# Altium footprint library capstonefootprints1.PcbLib: 17 footprints (part 1 of 2)
Each footprint in its own frame and in the unit in brackets; x right, y up, seen from the top. Pads: shape width x height; smd on the part's side, far side on the other; paste and mask are expansions set on the pad; w line width, h text height; cw(c..) or ccw(c..) is an arc to the next point about the centre after c.
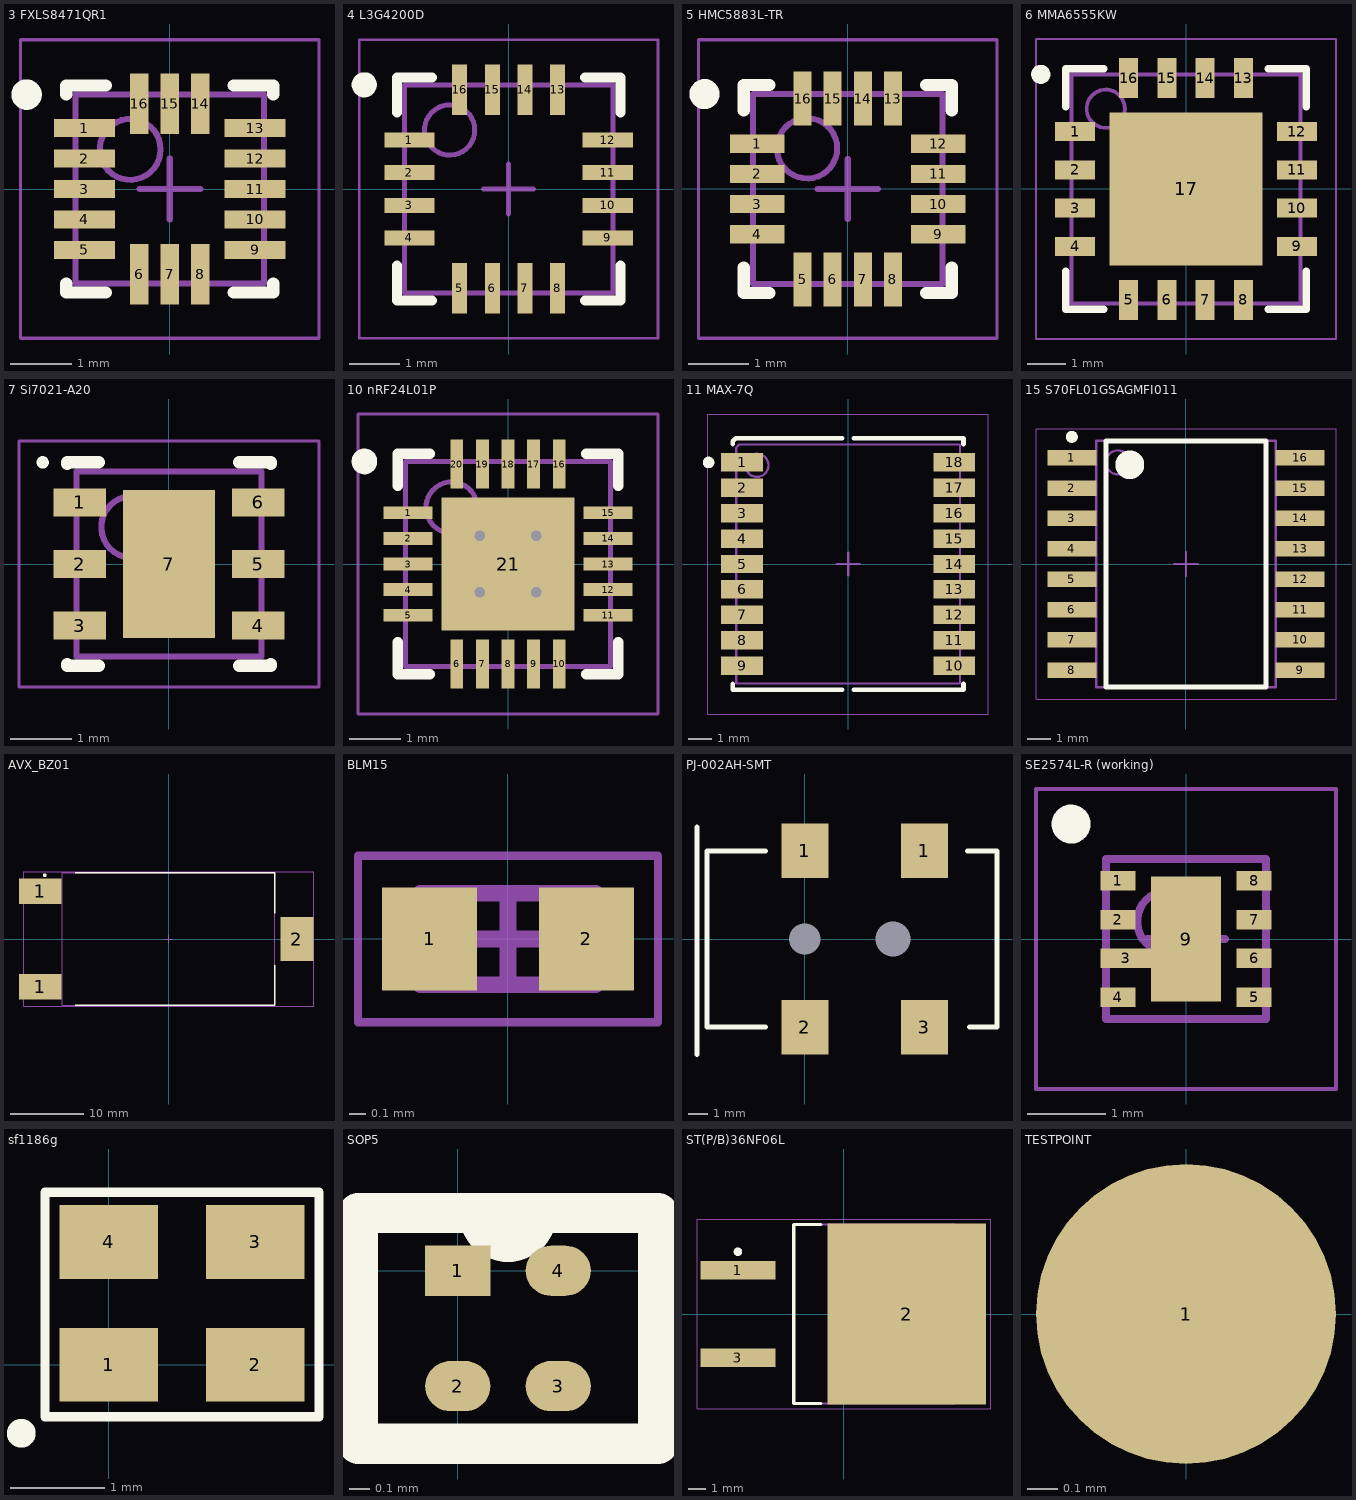
[diagram p0: the footprints below, top view; thin cyan lines are the x and y axes]

## 3 FXLS8471QR1 [mm]
height 1
pads (16):
  rect 1x0.3 smd: 1(-1.4,1) 2(-1.4,0.5) 3(-1.4,0) 4(-1.4,-0.5) 5(-1.4,-1) 9(1.4,-1) 10(1.4,-0.5) 11(1.4,0) 12(1.4,0.5) 13(1.4,1)
  rect 0.3x1 smd: 6(-0.5,-1.4) 7(0,-1.4) 8(0.5,-1.4) 14(0.5,1.4) 15(0,1.4) 16(-0.5,1.4)
Top Overlay:
  circle w0.25: c-2.35,1.55 r0.125
  lines w0.2: -1.7,-1.55 -1.7,-1.7 -1.05,-1.7 ; -1.7,1.55 -1.7,1.7 -1.05,1.7 ; 1.05,-1.7 1.7,-1.7 1.7,-1.55 ; 1.05,1.7 1.7,1.7 1.7,1.55
Mechanical 13:
  circle w0.1: c-0.65,0.65 r0.5
  lines w0.1: -1.55,-1.55 1.55,-1.55 1.55,1.55 -1.55,1.55 -1.55,-1.55
Mechanical 15:
  lines w0.05: -2.45,-2.45 2.45,-2.45 2.45,2.45 -2.45,2.45 -2.45,-2.45
  lines w0.1: -0.5,0 0.5,0 ; 0,-0.5 0,0.5
3D body: height 1, standoff 0, extent -1.55,-1.55 1.55,1.55

## 4 L3G4200D [mm] "QFN, 16-Leads, Body 4.00x4.00mm, Pitch 0.65mm, IPC Low Density"
height 1.1
pads (16):
  rect 1x0.3 smd: 1(-1.975,0.975) 2(-1.975,0.325) 3(-1.975,-0.325) 4(-1.975,-0.975) 9(1.975,-0.975) 10(1.975,-0.325) 11(1.975,0.325) 12(1.975,0.975)
  rect 0.3x1 smd: 5(-0.975,-1.975) 6(-0.325,-1.975) 7(0.325,-1.975) 8(0.975,-1.975) 13(0.975,1.975) 14(0.325,1.975) 15(-0.325,1.975) 16(-0.975,1.975)
Top Overlay:
  circle w0.25: c-2.875,2.075 r0.125
  lines w0.2: -2.225,-1.525 -2.225,-2.225 -1.525,-2.225 ; -2.225,1.525 -2.225,2.225 -1.525,2.225 ; 1.525,-2.225 2.225,-2.225 2.225,-1.525 ; 1.525,2.225 2.225,2.225 2.225,1.525
Mechanical 13:
  circle w0.1: c-1.175,1.175 r0.5
  lines w0.1: -2.075,-2.075 2.075,-2.075 2.075,2.075 -2.075,2.075 -2.075,-2.075
Mechanical 15:
  lines w0.05: -2.975,-2.975 2.975,-2.975 2.975,2.975 -2.975,2.975 -2.975,-2.975
  lines w0.1: -0.5,0 0.5,0 ; 0,-0.5 0,0.5
3D body: height 1.1, standoff 0.2, extent -2.075,-2.075 2.075,2.075

## 5 HMC5883L-TR [mm] "QFN, 16-Leads, Body 3.00x3.00mm, Pitch 0.50mm, IPC Low Density"
height 1
pads (16):
  rect 0.9x0.3 smd: 1(-1.5,0.75) 2(-1.5,0.25) 3(-1.5,-0.25) 4(-1.5,-0.75) 9(1.5,-0.75) 10(1.5,-0.25) 11(1.5,0.25) 12(1.5,0.75)
  rect 0.3x0.9 smd: 5(-0.75,-1.5) 6(-0.25,-1.5) 7(0.25,-1.5) 8(0.75,-1.5) 13(0.75,1.5) 14(0.25,1.5) 15(-0.25,1.5) 16(-0.75,1.5)
Top Overlay:
  circle w0.25: c-2.375,1.575 r0.125
  lines w0.2: -1.725,-1.3 -1.725,-1.725 -1.3,-1.725 ; -1.725,1.3 -1.725,1.725 -1.3,1.725 ; 1.3,-1.725 1.725,-1.725 1.725,-1.3 ; 1.3,1.725 1.725,1.725 1.725,1.3
Mechanical 13:
  circle w0.1: c-0.675,0.675 r0.5
  lines w0.1: -1.575,-1.575 1.575,-1.575 1.575,1.575 -1.575,1.575 -1.575,-1.575
Mechanical 15:
  lines w0.05: -2.475,-2.475 2.475,-2.475 2.475,2.475 -2.475,2.475 -2.475,-2.475
  lines w0.1: -0.5,0 0.5,0 ; 0,-0.5 0,0.5
3D body: height 1, standoff 0, extent -1.575,-1.575 1.575,1.575

## 6 MMA6555KW [mm] "QFN, 16-Leads, Body 6.00x6.00mm, Pitch 1.00mm, Thermal Pad 4.00x4.00mm, IPC Low Density"
height 2.03
pads (17):
  rect 1.05x0.5 smd: 1(-2.9,1.5) 2(-2.9,0.5) 3(-2.9,-0.5) 4(-2.9,-1.5) 9(2.9,-1.5) 10(2.9,-0.5) 11(2.9,0.5) 12(2.9,1.5)
  rect 0.5x1.05 smd: 5(-1.5,-2.9) 6(-0.5,-2.9) 7(0.5,-2.9) 8(1.5,-2.9) 13(1.5,2.9) 14(0.5,2.9) 15(-0.5,2.9) 16(-1.5,2.9)
  rect 4x4 smd: 17(0,0)
Top Overlay:
  circle w0.25: c-3.8,3 r0.125
  lines w0.2: -3.15,-2.15 -3.15,-3.15 -2.15,-3.15 ; -3.15,2.15 -3.15,3.15 -2.15,3.15 ; 2.15,-3.15 3.15,-3.15 3.15,-2.15 ; 2.15,3.15 3.15,3.15 3.15,2.15
Mechanical 13:
  circle w0.1: c-2.1,2.1 r0.5
  lines w0.1: -3,-3 3,-3 3,3 -3,3 -3,-3
Mechanical 15:
  lines w0.05: -3.925,-3.925 3.925,-3.925 3.925,3.925 -3.925,3.925 -3.925,-3.925
  lines w0.1: -0.5,0 0.5,0 ; 0,-0.5 0,0.5
3D body: height 2.03, standoff 0, extent -3,-3 3,3

## 7 Si7021-A20 [mm] "SON, 6-Leads, Body 3.00x3.00mm, Pitch 1.00mm, Thermal Pad 2.40x1.50mm, IPC Low Density"
height 0.8
pads (7):
  rect 0.85x0.45 smd mask+0.102: 1(-1.45,1) 2(-1.45,0) 3(-1.45,-1) 4(1.45,-1) 5(1.45,0) 6(1.45,1)
  rect 1.5x2.4 smd: 7(0,0)
Top Overlay:
  circle w0.1: c-2.05,1.65 r0.05
  lines w0.2: -1.65,-1.625 -1.65,-1.65 -1.14,-1.65 ; -1.65,1.625 -1.65,1.65 -1.14,1.65 ; 1.14,-1.65 1.65,-1.65 1.65,-1.625 ; 1.14,1.65 1.65,1.65 1.65,1.625
Mechanical 13:
  circle w0.1: c-0.6,0.6 r0.5
  lines w0.1: -1.5,-1.5 1.5,-1.5 1.5,1.5 -1.5,1.5 -1.5,-1.5
Mechanical 15:
  lines w0.05: -2.435,-2 2.435,-2 2.435,2 -2.435,2 -2.435,-2
  lines w0.1: -0.5,0 0.5,0 ; 0,-0.5 0,0.5
3D body: height 0.8, standoff 0, extent -1.5,-1.5 1.5,1.5

## 10 nRF24L01P [mm] "QFN, 20-Leads, Body 4.00x4.00mm, Pitch 0.50mm, Thermal Pad 2.60x2.60mm, IPC Low Density"
height 0.95
pads (21):
  rect 0.95x0.25 smd: 1(-1.95,1) 2(-1.95,0.5) 3(-1.95,0) 4(-1.95,-0.5) 5(-1.95,-1) 11(1.95,-1) 12(1.95,-0.5) 13(1.95,0) 14(1.95,0.5) 15(1.95,1)
  rect 0.25x0.95 smd: 6(-1,-1.95) 7(-0.5,-1.95) 8(0,-1.95) 9(0.5,-1.95) 10(1,-1.95) 16(1,1.95) 17(0.5,1.95) 18(0,1.95) 19(-0.5,1.95) 20(-1,1.95)
  rect 2.6x2.6 smd: 21(0,0)
via -0.55,0.55 diameter 0.5 hole 0.2
via 0.55,0.55 diameter 0.5 hole 0.2
via -0.55,-0.55 diameter 0.5 hole 0.2
via 0.55,-0.55 diameter 0.5 hole 0.2
Top Overlay:
  circle w0.25: c-2.8,2 r0.125
  lines w0.2: -2.15,-1.525 -2.15,-2.15 -1.525,-2.15 ; -2.15,1.525 -2.15,2.15 -1.525,2.15 ; 1.525,-2.15 2.15,-2.15 2.15,-1.525 ; 1.525,2.15 2.15,2.15 2.15,1.525
Mechanical 13:
  circle w0.1: c-1.1,1.1 r0.5
  lines w0.1: -2,-2 -2,2 2,2 2,-2 -2,-2
Mechanical 15:
  lines w0.05: -2.925,-2.925 -2.925,2.925 2.925,2.925 2.925,-2.925 -2.925,-2.925
  lines w0.1: -0.5,0 0.5,0 ; 0,-0.5 0,0.5
3D body: height 0.95, standoff 0, extent -2,-2 2,2

## 11 MAX-7Q [mm] "LCC, 18-Pins, Body 9.70x10.35mmx2.70mm, Pitch 1.10mm, IPC Low Density"
height 2.7
pads (18):
  rect 1.8x0.8 smd: 1(-4.6,4.4) 2(-4.6,3.3) 3(-4.6,2.2) 4(-4.6,1.1) 5(-4.6,0) 6(-4.6,-1.1) 7(-4.6,-2.2) 8(-4.6,-3.3) 9(-4.6,-4.4) 10(4.6,-4.4) 11(4.6,-3.3) 12(4.6,-2.2) 13(4.6,-1.1) 14(4.6,0) 15(4.6,1.1) 16(4.6,2.2) 17(4.6,3.3) 18(4.6,4.4)
Top Overlay:
  circle w0.25: c-6.05,4.4 r0.125
  lines w0.2: -5,-5.2 -5,-5.45 -0.25,-5.45 ; -5,5.2 -5,5.325 -4.875,5.45 -0.25,5.45 ; 0.25,-5.45 5,-5.45 5,-5.2 ; 0.25,5.45 5,5.45 5,5.2
Mechanical 13:
  circle w0.1: c-3.95,4.275 r0.5
  lines w0.1: -4.85,-5.175 4.85,-5.175 4.85,5.175 -4.725,5.175 -4.85,5.05 -4.85,-5.175
Mechanical 15:
  lines w0.05: -6.075,-6.5 6.075,-6.5 6.075,6.5 -6.075,6.5 -6.075,-6.5
  lines w0.1: -0.5,0 0.5,0 ; 0,-0.5 0,0.5
3D body: height 2.7, standoff 0, extent -4.85,-5.175 4.85,5.175

## 15 S70FL01GSAGMFI011 [mm] "SOIC, 16-Leads, Body 10.30x7.50mm, Pitch 1.27mm, IPC Low Density"
height 2.65
pads (16):
  rect 2.05x0.65 smd: 1(-4.775,4.445) 2(-4.775,3.175) 3(-4.775,1.905) 4(-4.775,0.635) 5(-4.775,-0.635) 6(-4.775,-1.905) 7(-4.775,-3.175) 8(-4.775,-4.445) 9(4.775,-4.445) 10(4.775,-3.175) 11(4.775,-1.905) 12(4.775,-0.635) 13(4.775,0.635) 14(4.775,1.905) 15(4.775,3.175) 16(4.775,4.445)
Top Overlay:
  circle w0.6: c-2.35,4.15 r0.3
  circle w0.25: c-4.775,5.32 r0.125
  lines w0.2: -3.35,-5.15 3.35,-5.15 3.35,5.15 -3.35,5.15 -3.35,-5.15
Mechanical 13:
  circle w0.1: c-2.85,4.25 r0.5
  lines w0.1: -3.75,-5.15 3.75,-5.15 3.75,5.15 -3.75,5.15 -3.75,-5.15
Mechanical 15:
  lines w0.05: -6.275,-5.65 6.275,-5.65 6.275,5.65 -6.275,5.65 -6.275,-5.65
  lines w0.1: -0.5,0 0.5,0 ; 0,-0.5 0,0.5
3D body: height 2.65, standoff 0.1, extent -3.75,-5.15 3.75,5.15

## AVX_BZ01 [mm] "AVX BZ01 Supercapacitor, 3-Leads"
height 7.1
pads (3):
  rect 5.8x3.5 smd: 1(-17.5,-6.5) 1(-17.5,6.5)
  rect 4.5x6 smd: 2(17.5,0)
Top Overlay:
  circle w0.25: c-16.9,8.7 r0.125
  lines w0.2: -12.7,-9 14.5,-9 14.5,-3.6 ; -12.7,9 14.5,9 14.5,3.5
Mechanical 13:
  lines w0.1: -14.5,-9 -14.5,9 14.5,9 14.5,-9 -14.5,-9
Mechanical 15:
  lines w0.05: -19.775,-9.15 -19.775,9.15 19.775,9.15 19.775,-9.15 -19.775,-9.15
  lines w0.1: -0.5,0 0.5,0 ; 0,-0.5 0,0.5
3D body: height 7.1, standoff 0, extent -14.5,-9 14.5,9

## BLM15 [mm] "Chip Ferrite Bead, 0402"
height 0.55
pads (2):
  rect 0.57x0.62 smd: 1(-0.47,0) 2(0.47,0)
Mechanical 13:
  lines w0.1: -0.525,-0.275 0.525,-0.275 0.525,0.275 -0.525,0.275 -0.525,-0.275
Mechanical 15:
  lines w0.05: -0.9,-0.5 0.9,-0.5 0.9,0.5 -0.9,0.5 -0.9,-0.5
  lines w0.1: -0.275,0 0.275,0 ; 0,-0.275 0,0.275
3D body: height 0.55, standoff 0, extent 0.265,-0.275 0.525,0.275
3D body: height 0.55, standoff 0, extent -0.525,-0.275 -0.265,0.275
3D body: height 0.55, standoff 0, extent -0.265,-0.275 0.265,0.275

## PJ-002AH-SMT [mm] "Barrel Jack Footprint"
height 11
pads (6):
  rect 2.4x2.8 smd: 1(0,4.5) 1(6.1,4.5) 2(0,-4.5) 3(6.1,-4.5)
  round 0 hole 1.6 unplated: ""(0,0)
  round 0 hole 1.8 unplated: ""(4.5,0)
Top Overlay:
  lines w0.254: -5.5,-5.9 -5.5,5.7 ; -2,-4.5 -5,-4.5 -5,4.5 -2,4.5 ; 8.3,4.5 9.8,4.5 9.8,-4.5 8.4,-4.5

## SE2574L-R (working) [mm] "QFN, 8-Leads, Body 2.00x2.00mm, Pitch 0.50mm, Thermal Pad 0.90x1.60mm, IPC Low Density"
height 0.9
pads (9):
  rect 0.45x0.25 smd: 1(-0.875,0.75) 2(-0.875,0.25) 4(-0.875,-0.75) 5(0.875,-0.75) 6(0.875,-0.25) 7(0.875,0.25) 8(0.875,0.75)
  rect 0.65x0.25 smd: 3(-0.775,-0.25)
  rect 0.9x1.6 smd: 9(0,0)
via -2.413,0.254 diameter 0.127 hole 0.035
Top Overlay:
  circle w0.25: c-1.475,1.475 r0.125
Mechanical 13:
  circle w0.1: c-0.225,0.225 r0.4
  lines w0.1: -1.025,-1.025 -1.025,1.025 1.025,1.025 1.025,-1.025 -1.025,-1.025
Mechanical 15:
  lines w0.05: -1.925,-1.925 -1.925,1.925 1.925,1.925 1.925,-1.925 -1.925,-1.925
  lines w0.1: -0.5,0 0.5,0 ; 0,-0.5 0,0.5
3D body: height 0.9, standoff -0.05, extent -1.025,-1.025 1.025,1.025

## sf1186g [mm] "SAW RF FILTER 1575.42 MHZ"
pads (4):
  rect 1.04x0.78 smd: 1(0,0) 2(1.55,0) 3(1.55,1.3) 4(0,1.3)
Top Overlay:
  circle w0.254: c-0.925,-0.725 r0.025
  lines w0.1: -0.675,-0.55 2.225,-0.55 2.225,1.825 -0.675,1.825 -0.675,-0.55

## SOP5 [mm]
pads (4):
  rect 0.325x0.25 smd: 1(0,0)
  oval 0.325x0.25 smd: 2(0,-0.575) 3(0.5,-0.575) 4(0.5,0)
Top Overlay:
  lines w0.2: -0.497,-0.863 -0.497,0.288 0.394,0.288 cw(c0.25,0.288) 0.106,0.288 0.997,0.288 0.997,-0.863 -0.497,-0.863

## ST(P/B)36NF06L [mm] "D2-PAK, 3-Pads, Body 7.77x8.56mm (max), IPC Medium Density"
height 4.6
pads (3):
  rect 4.35x1.05 smd: 1(-6.15,2.54) 3(-6.15,-2.54)
  rect 9.2x10.5 smd: 2(3.65,0)
Top Overlay:
  circle w0.25: c-6.15,3.615 r0.125
  lines w0.2: -1.35,-5.2 -2.9,-5.2 -2.9,5.2 -1.35,5.2
Mechanical 13:
  lines w0.1: -2.9,-5.2 6.45,-5.2 6.45,5.2 -2.9,5.2 -2.9,-5.2
Mechanical 15:
  lines w0.05: -8.525,-5.5 8.525,-5.5 8.525,5.5 -8.525,5.5 -8.525,-5.5
  lines w0.1: -0.5,0 0.5,0 ; 0,-0.5 0,0.5
3D body: height 4.6, standoff 0, extent -2.9,-5.2 6.45,5.2

## TESTPOINT [mm]
height 1
pads (1):
  round 1 smd paste-0.5: 1(0,0)